# EAGLE library part IC_USB2514 (library dp_devices)
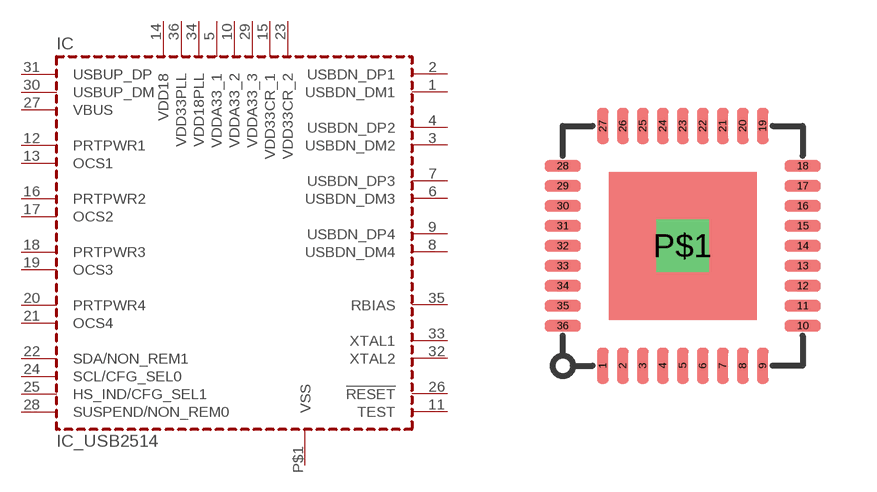
[diagram p82: symbol with the pads of QFN36_6X6; footprint QFN36_6X6]

Designator prefix IC

## IC_USB2514  [QFN36_6X6]
1  USBDN_DM1
2  USBDN_DP1
3  USBDN_DM2
4  USBDN_DP2
5  VDDA33_1
6  USBDN_DM3
7  USBDN_DP3
8  USBDN_DM4
9  USBDN_DP4
10  VDDA33_2
11  TEST
12  PRTPWR1
13  OCS1
14  VDD18
15  VDD33CR_1
16  PRTPWR2
17  OCS2
18  PRTPWR3
19  OCS3
20  PRTPWR4
21  OCS4
22  SDA/NON_REM1
23  VDD33CR_2
24  SCL/CFG_SEL0
25  HS_IND/CFG_SEL1
26  !RESET
27  VBUS
28  SUSPEND/NON_REM0
29  VDDA33_3
30  USBUP_DM
31  USBUP_DP
32  XTAL2
33  XTAL1
34  VDD18PLL
35  RBIAS
36  VDD33PLL
P$1  VSS

## Footprint QFN36_6X6 (pad centres in mm)
smd 0.28 x 0.9: 1 -2,-3; 2 -1.5,-3; 3 -1,-3; 4 -0.5,-3; 5 0,-3; 6 0.5,-3; 7 1,-3; 8 1.5,-3; 9 2,-3; 19 2,3; 20 1.5,3; 21 1,3; 22 0.5,3; 23 0,3; 24 -0.5,3; 25 -1,3; 26 -1.5,3; 27 -2,3
smd 0.9 x 0.28: 10 3,-2; 11 3,-1.5; 12 3,-1; 13 3,-0.5; 14 3,0; 15 3,0.5; 16 3,1; 17 3,1.5; 18 3,2; 28 -3,2; 29 -3,1.5; 30 -3,1; 31 -3,0.5; 32 -3,0; 33 -3,-0.5; 34 -3,-1; 35 -3,-1.5; 36 -3,-2
drill 0.8 square: P$1 0,0